# EAGLE library part 3V3-8 (library home-mind)
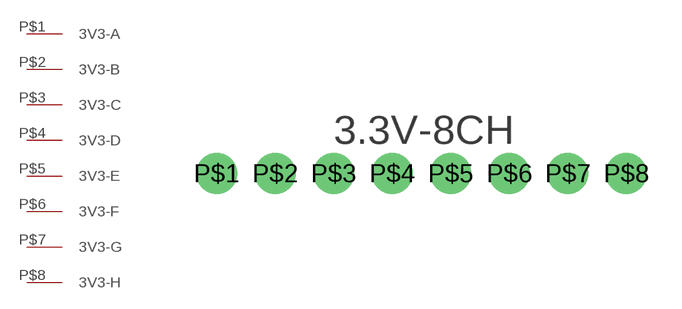
[diagram p0: symbol with the pads of 3.3V-8; footprint 3.3V-8]

Designator prefix -

## 3V3-8  [3.3V-8]
P$1  3V3-A
P$2  3V3-B
P$3  3V3-C
P$4  3V3-D
P$5  3V3-E
P$6  3V3-F
P$7  3V3-G
P$8  3V3-H

## Footprint 3.3V-8 (pad centres in mm)
drill 0.9 pad 1.778: P$1 0,0; P$2 2.54,0; P$3 5.08,0; P$4 7.62,0; P$5 10.16,0; P$6 12.7,0; P$7 15.24,0; P$8 17.78,0